# EAGLE library part ARDUINO_NANO_33_IOT_THT (library ABX00027)
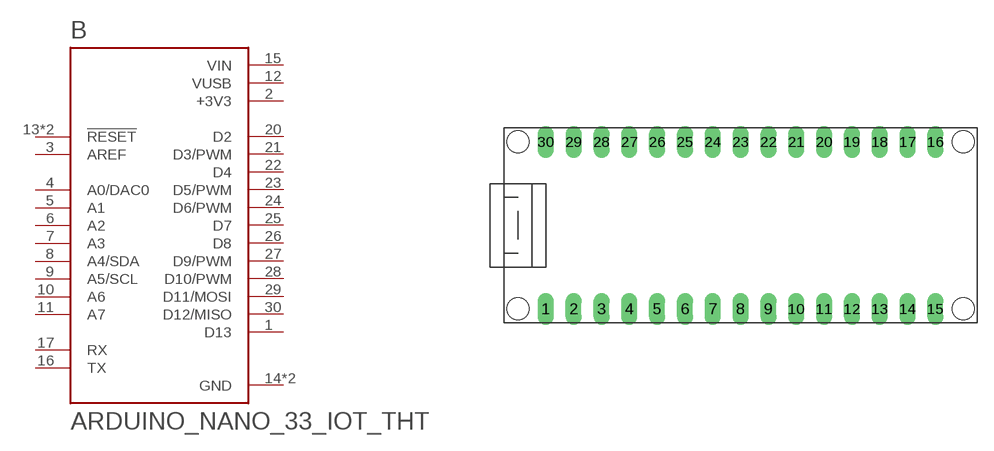
[diagram p1: symbol with the pads of MODULE_ABX00027_THT; footprint MODULE_ABX00027_THT]

Designator prefix B

## ARDUINO_NANO_33_IOT_THT  [MODULE_ABX00027_THT]
1  D13
2  +3V3  pwr
3  AREF  in
4  A0/DAC0
5  A1  in
6  A2  in
7  A3  in
8  A4/SDA  in
9  A5/SCL  in
10  A6  in
11  A7  in
12  VUSB  pwr
13  !RESET  in
14  GND  pwr
15  VIN  pwr
16  TX
17  RX
18  !RESET  in
19  GND  pwr
20  D2
21  D3/PWM
22  D4
23  D5/PWM
24  D6/PWM
25  D7
26  D8
27  D9/PWM
28  D10/PWM
29  D11/MOSI
30  D12/MISO

## Footprint MODULE_ABX00027_THT (pad centres in mm)
drill 0.95 pad 1.27 long: 1 -17.78,-7.62; 2 -15.24,-7.62; 3 -12.7,-7.62; 4 -10.16,-7.62; 5 -7.62,-7.62; 6 -5.08,-7.62; 7 -2.54,-7.62; 8 0,-7.62; 9 2.54,-7.62; 10 5.08,-7.62; 11 7.62,-7.62; 12 10.16,-7.62; 13 12.7,-7.62; 14 15.24,-7.62; 15 17.775,-7.615; 16 17.78,7.62; 17 15.24,7.62; 18 12.7,7.62; 19 10.16,7.62; 20 7.62,7.62; 21 5.08,7.62; 22 2.54,7.62; 23 0,7.62; 24 -2.54,7.62; 25 -5.08,7.62; 26 -7.62,7.62; 27 -10.16,7.62; 28 -12.7,7.62; 29 -15.24,7.62; 30 -17.78,7.62
hole 2 at -20.32,-7.62
hole 2 at -20.32,7.62
hole 2 at 20.32,-7.62
hole 2 at 20.32,7.62